# Altium footprint library DM3AT-SF-PEJM5.PcbLib: 1 footprints
Each footprint in its own frame and in the unit in brackets; x right, y up, seen from the top. Pads: shape width x height; smd on the part's side, far side on the other; paste and mask are expansions set on the pad; w line width, h text height; cw(c..) or ccw(c..) is an arc to the next point about the centre after c.
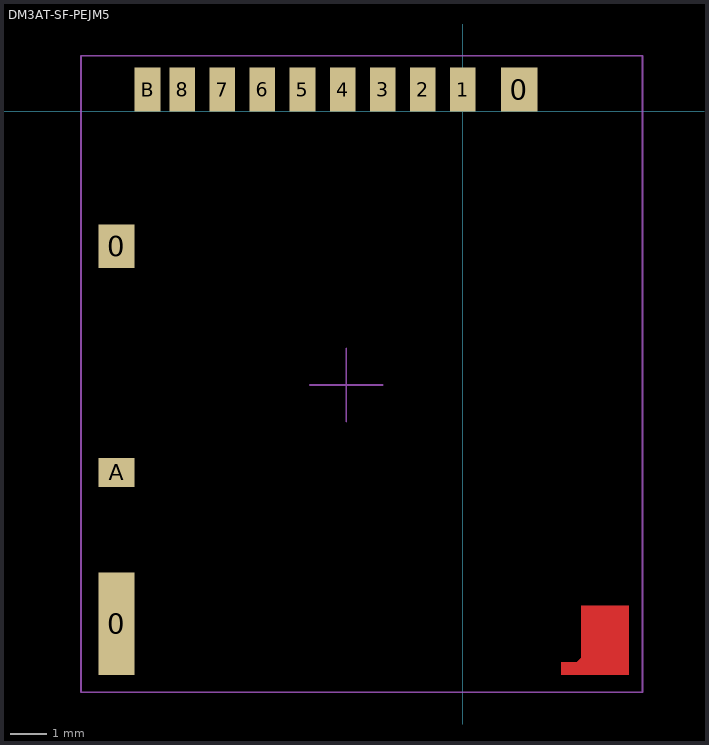
[diagram p0: the footprint, top view; thin cyan lines are the x and y axes]

## DM3AT-SF-PEJM5 [mm] "Hirose uSD connector SMT"
pads (13):
  rect 1x2.8 smd: 0(-9.5,-14.05)
  rect 1x1.2 smd: 0(-9.5,-3.7) 0(1.55,0.6)
  rect 0.7x1.2 smd: 1(0,0.6) 2(-1.1,0.6) 3(-2.2,0.6) 4(-3.3,0.6) 5(-4.4,0.6) 6(-5.5,0.6) 7(-6.6,0.6) 8(-7.7,0.6) B(-8.65,0.6)
  rect 1x0.8 smd: A(-9.5,-9.9)
Top Layer:
  region: 2.7,-15.1 2.7,-15.45 4.55,-15.45 4.55,-13.55 3.25,-13.55 3.25,-14.975 3.125,-15.1
Top Courtyard:
  lines w0.05: -4.2,-7.5 -2.2,-7.5 ; -3.2,-8.5 -3.2,-6.5 ; -10.475,-15.925 -10.475,1.525 4.925,1.525 4.925,-15.925 -10.475,-15.925
3D body "DM3AT-SF-PEJM5.stp": height 1.68, standoff 0, extent -9.725,-15.55 4.125,0.6